# EAGLE library part A3982 (library reprap)
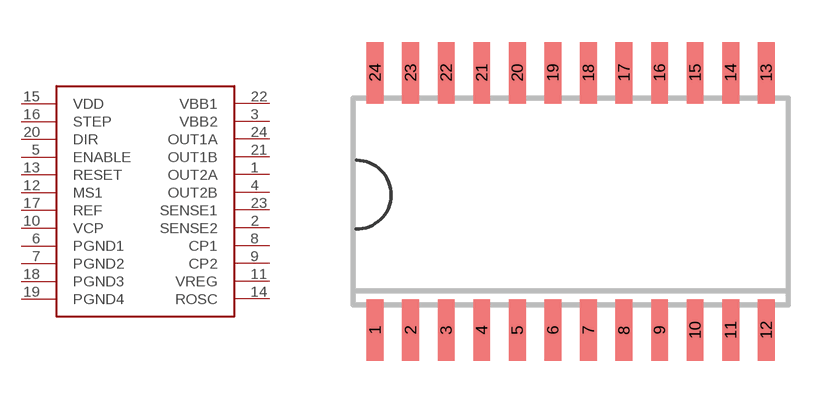
[diagram p10: symbol with the pads of SO24W; footprint SO24W]

Designator prefix -

## A3982SOIC24  [SO24W]
1  OUT2A
2  SENSE2
3  VBB2
4  OUT2B
5  ENABLE
6  PGND1
7  PGND2
8  CP1
9  CP2
10  VCP
11  VREG
12  MS1
13  RESET
14  ROSC
15  VDD
16  STEP
17  REF
18  PGND3
19  PGND4
20  DIR
21  OUT1B
22  VBB1
23  SENSE1
24  OUT1A

## Footprint SO24W (pad centres in mm)
SMALL OUTLINE INTEGRATED CIRCUIT wide body 7.5 mm/JEDEC MO-119AA
smd 0.6 x 2.2: 1 -6.985,-4.6; 2 -5.715,-4.6; 3 -4.445,-4.6; 4 -3.175,-4.6; 5 -1.905,-4.6; 6 -0.635,-4.6; 7 0.635,-4.6; 8 1.905,-4.6; 9 3.175,-4.6; 10 4.445,-4.6; 11 5.715,-4.6; 12 6.985,-4.6; 13 6.985,4.6; 14 5.715,4.6; 15 4.445,4.6; 16 3.175,4.6; 17 1.905,4.6; 18 0.635,4.6; 19 -0.635,4.6; 20 -1.905,4.6; 21 -3.175,4.6; 22 -4.445,4.6; 23 -5.715,4.6; 24 -6.985,4.6